# EAGLE library part PPPC081LFBN-RC (library SamacSys_Parts)
CONN HDR 8POS 0.1 GOLD PCB Source: Datasheet <https://drawings-pdf.s3.amazonaws.com/10492.pdf>
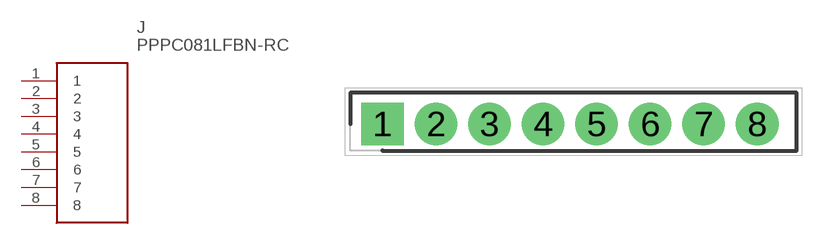
[diagram p251: symbol with the pads of SHDR8W80P0X254_1X8_2082X254X87; footprint SHDR8W80P0X254_1X8_2082X254X87]

Designator prefix J

## PPPC081LFBN-RC (ARROW_PART_NUMBER: PPPC081LFBN-RC; DESCRIPTION: CONN HDR 8POS 0.1 GOLD PCB; HEIGHT: 8.7mm; MANUFACTURER_NAME: Sullins; MANUFACTURER_PART_NUMBER: PPPC081LFBN-RC)  [SHDR8W80P0X254_1X8_2082X254X87]
1  1
2  2
3  3
4  4
5  5
6  6
7  7
8  8

## Footprint SHDR8W80P0X254_1X8_2082X254X87 (pad centres in mm)
PPPC081LFBN-RC
drill 1.35 pad 2.025 square: 1 0,0
drill 1.35 pad 2.025: 2 2.54,0; 3 5.08,0; 4 7.62,0; 5 10.16,0; 6 12.7,0; 7 15.24,0; 8 17.78,0